# Altium schematic symbol library LM317LZ.Schlib: 1 symbol
Pins are listed as number, name and electrical type; pins without a type are passive.

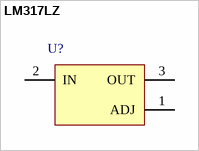
[diagram p0: symbol LM317LZ]

## LM317LZ
designator U?
pins: 1 ADJ, 2 IN, 3 OUT